# Altium footprint library Chips.PcbLib: 10 footprints
Each footprint in its own frame and in the unit in brackets; x right, y up, seen from the top. Pads: shape width x height; smd on the part's side, far side on the other; paste and mask are expansions set on the pad; w line width, h text height; cw(c..) or ccw(c..) is an arc to the next point about the centre after c.
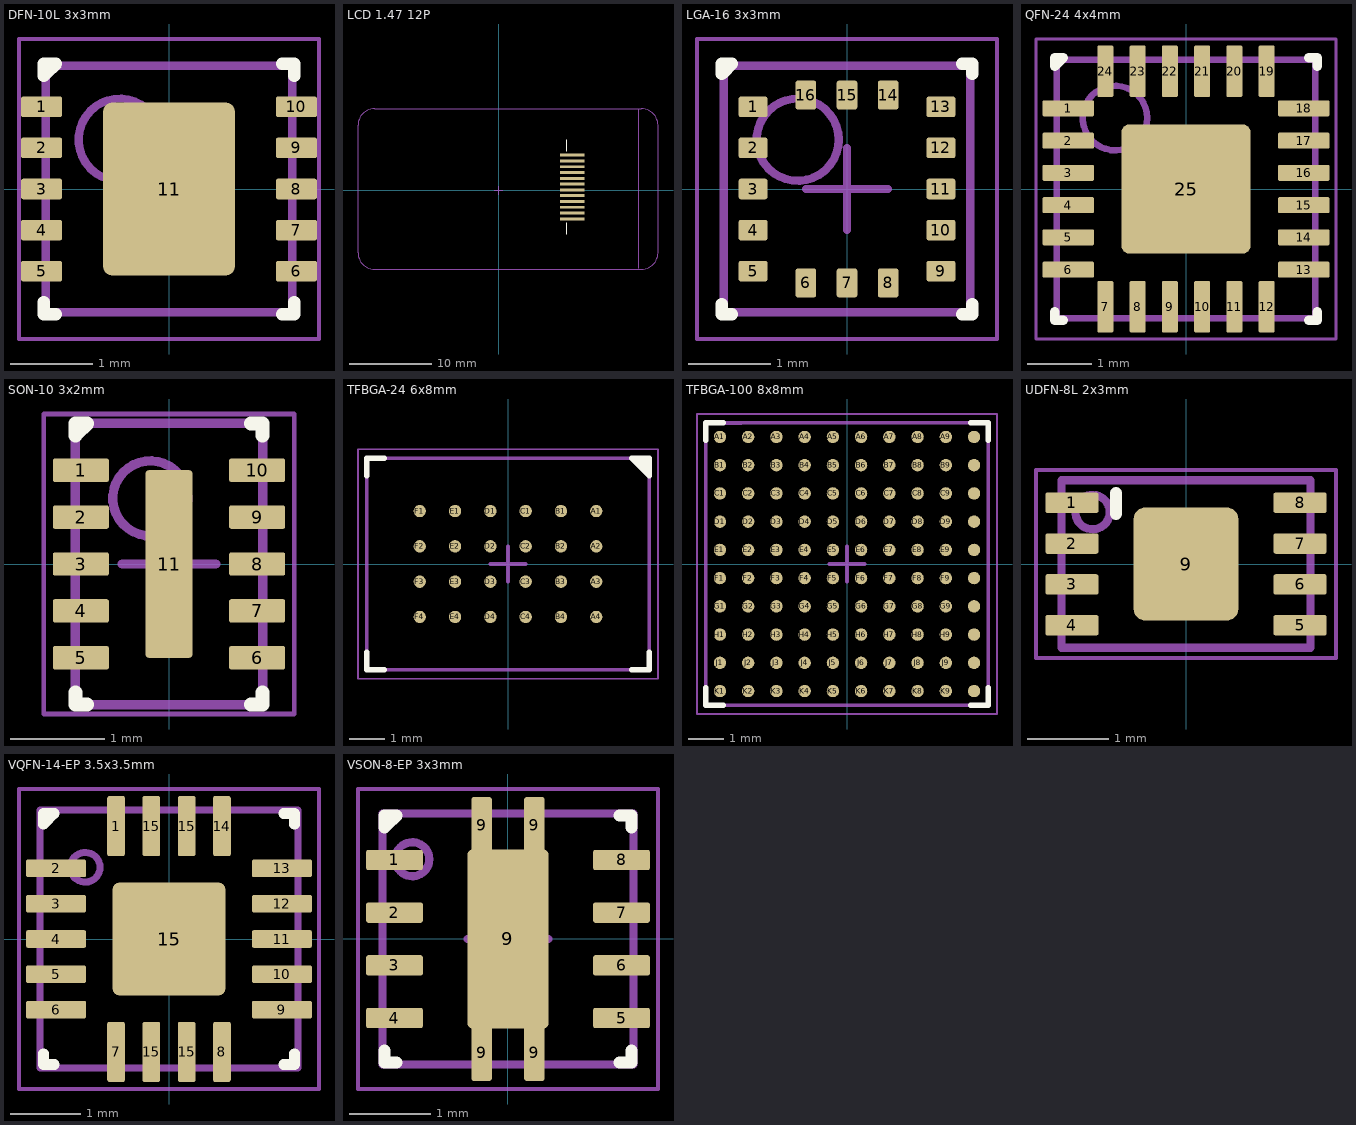
[diagram p0: the footprints below, top view; thin cyan lines are the x and y axes]

## DFN-10L 3x3mm [mm] "DFN-10L 3x3mm Pitch 0.50mm"
height 0.75
pads (11):
  rrect21% 0.5x0.25 smd mask+0.05: 1(-1.55,1) 2(-1.55,0.5) 3(-1.55,0) 4(-1.55,-0.5) 5(-1.55,-1) 6(1.55,-1) 7(1.55,-0.5) 8(1.55,0) 9(1.55,0.5) 10(1.55,1)
  rrect12% 1.6x2.1 smd mask+0.05: 11(0,0)
Top Overlay:
  region: -1.524,1.524 -1.374,1.524
  region: -1.312,1.483 -1.462,1.483 -1.462,1.333
  lines w0.15: -1.524,-1.374 -1.524,-1.524 -1.374,-1.524 ; -1.524,1.374 -1.524,1.524 -1.374,1.524 ; 1.374,-1.524 1.524,-1.524 1.524,-1.374 ; 1.374,1.524 1.524,1.524 1.524,1.374
Mechanical 13:
  circle w0.1: c-0.6,0.6 r0.5
  lines w0.1: -1.5,-1.5 -1.5,1.5 1.5,1.5 1.5,-1.5 -1.5,-1.5
Mechanical 15:
  lines w0.05: -1.825,-1.825 -1.825,1.825 1.825,1.825 1.825,-1.825 -1.825,-1.825
  lines w0.1: -0.5,0 0.5,0 ; 0,-0.5 0,0.5
3D body "DFN-10L 3x3mm.step": height 0.75, standoff 0, extent -1.55,-1.5 1.55,1.5

## LCD 1.47 12P [mm] "LBS147TC-IG01 1.47 inch 172RGB*320DOTS ST7789"
height 1
pads (12):
  rrect21% 3x0.35 smd mask+0.05: 1(8.922,4.271) 2(8.922,3.571) 3(8.922,2.871) 4(8.922,2.171) 5(8.922,1.471) 6(8.922,0.771) 7(8.922,0.071) 8(8.922,-0.629) 9(8.922,-1.329) 10(8.922,-2.029) 11(8.922,-2.729) 12(8.922,-3.429)
Top Overlay:
  lines w0.15: 8.271,-5.281 8.271,-3.884 ; 8.271,4.752 8.271,6.149
Mechanical 13:
  lines w0.15: 16.998,-9.436 16.998,0.18 16.998,9.868 ; -17.002,-7.52 ccw(c-15.002,-7.52) -15.002,-9.52 17.298,-9.52 ccw(c17.298,-7.52) 19.298,-7.52 19.298,7.88 ccw(c17.298,7.88) 17.298,9.88 -15.002,9.88 ccw(c-15.002,7.88) -17.002,7.88 -17.002,-7.52
Mechanical 15:
  lines w0.1: -0.498,0 0.502,0 ; 0.002,-0.5 0.002,0.5
3D body "LCD 1.47.step": height 1.46, standoff 0, extent -16.981,-9.515 19.299,9.875

## LGA-16 3x3mm [mm] "LGA-16 3x3mm Pitch 0.50mm"
height 1
pads (16):
  rrect21% 0.35x0.25 smd mask+0.05: 1(-1.143,1) 2(-1.143,0.5) 3(-1.143,0) 4(-1.143,-0.5) 5(-1.143,-1) 9(1.143,-1) 10(1.143,-0.5) 11(1.143,0) 12(1.143,0.5) 13(1.143,1)
  rrect21% 0.25x0.35 smd mask+0.05: 6(-0.5,-1.143) 7(0,-1.143) 8(0.5,-1.143) 14(0.5,1.143) 15(0,1.143) 16(-0.5,1.143)
Top Overlay:
  region: -1.465,1.356 -1.465,1.481 -1.34,1.481
  lines w0.15: -1.524,-1.399 -1.524,-1.524 -1.399,-1.524 ; -1.524,1.399 -1.524,1.524 -1.399,1.524 ; 1.399,-1.524 1.524,-1.524 1.524,-1.399 ; 1.399,1.524 1.524,1.524 1.524,1.399
Mechanical 13:
  circle w0.1: c-0.6,0.6 r0.5
  lines w0.1: -1.5,-1.5 1.5,-1.5 1.5,1.5 -1.5,1.5 -1.5,-1.5
Mechanical 15:
  lines w0.05: -1.825,-1.825 1.825,-1.825 1.825,1.825 -1.825,1.825 -1.825,-1.825
  lines w0.1: -0.5,0 0.5,0 ; 0,-0.5 0,0.5
3D body "LGA-16 3x3mm.step": height 1, standoff 0, extent -1.55,-1.55 1.55,1.55

## QFN-24 4x4mm [mm] "QFN-24 4x4mm Pitch 0.50mm"
height 0.75
pads (25):
  rrect21% 0.8x0.25 smd mask+0.05: 1(-1.825,1.25) 2(-1.825,0.75) 3(-1.825,0.25) 4(-1.825,-0.25) 5(-1.825,-0.75) 6(-1.825,-1.25) 13(1.825,-1.25) 14(1.825,-0.75) 15(1.825,-0.25) 16(1.825,0.25) 17(1.825,0.75) 18(1.825,1.25)
  rrect21% 0.25x0.8 smd mask+0.05: 7(-1.25,-1.825) 8(-0.75,-1.825) 9(-0.25,-1.825) 10(0.25,-1.825) 11(0.75,-1.825) 12(1.25,-1.825) 19(1.25,1.825) 20(0.75,1.825) 21(0.25,1.825) 22(-0.25,1.825) 23(-0.75,1.825) 24(-1.25,1.825)
  rrect12% 2x2 smd: 25(0,0)
Top Overlay:
  region: -1.973,1.864 -1.973,1.989 -1.848,1.989
  lines w0.15: -2.032,-1.907 -2.032,-2.032 -1.907,-2.032 ; -2.032,1.907 -2.032,2.032 -1.907,2.032 ; 1.907,-2.032 2.032,-2.032 2.032,-1.907 ; 1.907,2.032 2.032,2.032 2.032,1.907
Mechanical 13:
  circle w0.1: c-1.1,1.1 r0.5
  lines w0.1: -2,-2 -2,2 2,2 2,-2 -2,-2
Mechanical 15:
  lines w0.05: -2.325,-2.325 -2.325,2.325 2.325,2.325 2.325,-2.325 -2.325,-2.325
  lines w0.1: -0.5,0 0.5,0 ; 0,-0.5 0,0.5
3D body "QFN-24 4x4mm.step": height 0.75, standoff 0, extent -2.05,-2.05 2.05,2.05

## SON-10 3x2mm [mm] "SON-10 3x2mm Pitch 0.50mm"
pads (11):
  rrect21% 0.6x0.25 smd mask+0.05: 1(-0.94,1) 2(-0.94,0.5) 3(-0.94,0) 4(-0.94,-0.5) 5(-0.94,-1) 6(0.94,-1) 7(0.94,-0.5) 8(0.94,0) 9(0.94,0.5) 10(0.94,1)
  rrect12% 0.5x2 smd mask+0.05: 11(0,0)
Top Overlay:
  region: -0.939,1.33 -0.939,1.455 -0.814,1.455
  lines w0.15: -0.998,-1.373 -0.998,-1.498 -0.873,-1.498 ; -0.998,1.373 -0.998,1.498 -0.873,1.498 ; 0.873,-1.498 0.998,-1.498 0.998,-1.373 ; 0.873,1.498 0.998,1.498 0.998,1.373
Mechanical 13:
  circle w0.1: c-0.2,0.7 r0.4
  lines w0.1: -1,-1.5 1,-1.5 1,1.5 -1,1.5 -1,-1.5
Mechanical 15:
  lines w0.05: -1.335,-1.6 1.335,-1.6 1.335,1.6 -1.335,1.6 -1.335,-1.6
  lines w0.1: -0.5,0 0.5,0 ; 0,-0.5 0,0.5
3D body "SON-10 3x2mm.step": height 0.8, standoff 0, extent -1.05,-1.5 1.05,1.5

## TFBGA-24 6x8mm [mm] "TFBGA-24 6x8mm Pitch 1.00mm"
height 1.2
pads (24):
  round 0.35 smd: A1(2.5,1.5) A2(2.5,0.5) A3(2.5,-0.5) A4(2.5,-1.5) B1(1.5,1.5) B2(1.5,0.5) B3(1.5,-0.5) B4(1.5,-1.5) C1(0.5,1.5) C2(0.5,0.5) C3(0.5,-0.5) C4(0.5,-1.5) D1(-0.5,1.5) D2(-0.5,0.5) D3(-0.5,-0.5) D4(-0.5,-1.5) E1(-1.5,1.5) E2(-1.5,0.5) E3(-1.5,-0.5) E4(-1.5,-1.5) F1(-2.5,1.5) F2(-2.5,0.5) F3(-2.5,-0.5) F4(-2.5,-1.5)
Top Overlay:
  region: 3.947,2.451 3.447,2.951 3.947,2.951
  lines w0.15: -4,-2.5 -4,-3 -3.5,-3 ; -4,2.5 -4,3 -3.5,3 ; 3.5,-3 4,-3 4,-2.5 ; 3.5,3 4,3 4,2.5
Mechanical 13:
  lines w0.1: -4,-3 4,-3 4,3 -4,3 -4,-3
Mechanical 15:
  lines w0.05: -4.25,-3.25 4.25,-3.25 4.25,3.25 -4.25,3.25 -4.25,-3.25
  lines w0.1: -0.5,0 0.5,0 ; 0,-0.5 0,0.5
3D body "MX25L12855FXCI-10G.step": height 1.2, standoff 0, extent -4,-3 4,3

## TFBGA-100 8x8mm [mm] "TFBGA-100 8x8mm Pitch 0.80mm"
height 1.2
pads (100):
  round 0.35 smd: A1(-3.6,3.6) A2(-2.8,3.6) A3(-2,3.6) A4(-1.2,3.6) A5(-0.4,3.6) A6(0.4,3.6) A7(1.2,3.6) A8(2,3.6) A9(2.8,3.6) A10(3.6,3.6) B1(-3.6,2.8) B2(-2.8,2.8) B3(-2,2.8) B4(-1.2,2.8) B5(-0.4,2.8) B6(0.4,2.8) B7(1.2,2.8) B8(2,2.8) B9(2.8,2.8) B10(3.6,2.8) C1(-3.6,2) C2(-2.8,2) C3(-2,2) C4(-1.2,2) C5(-0.4,2) C6(0.4,2) C7(1.2,2) C8(2,2) C9(2.8,2) C10(3.6,2) D1(-3.6,1.2) D2(-2.8,1.2) D3(-2,1.2) D4(-1.2,1.2) D5(-0.4,1.2) D6(0.4,1.2) D7(1.2,1.2) D8(2,1.2) D9(2.8,1.2) D10(3.6,1.2) E1(-3.6,0.4) E2(-2.8,0.4) E3(-2,0.4) E4(-1.2,0.4) E5(-0.4,0.4) E6(0.4,0.4) E7(1.2,0.4) E8(2,0.4) E9(2.8,0.4) E10(3.6,0.4) F1(-3.6,-0.4) F2(-2.8,-0.4) F3(-2,-0.4) F4(-1.2,-0.4) F5(-0.4,-0.4) F6(0.4,-0.4) F7(1.2,-0.4) F8(2,-0.4) F9(2.8,-0.4) F10(3.6,-0.4) G1(-3.6,-1.2) G2(-2.8,-1.2) G3(-2,-1.2) G4(-1.2,-1.2) G5(-0.4,-1.2) G6(0.4,-1.2) G7(1.2,-1.2) G8(2,-1.2) G9(2.8,-1.2) G10(3.6,-1.2) H1(-3.6,-2) H2(-2.8,-2) H3(-2,-2) H4(-1.2,-2) H5(-0.4,-2) H6(0.4,-2) H7(1.2,-2) H8(2,-2) H9(2.8,-2) H10(3.6,-2) J1(-3.6,-2.8) J2(-2.8,-2.8) J3(-2,-2.8) J4(-1.2,-2.8) J5(-0.4,-2.8) J6(0.4,-2.8) J7(1.2,-2.8) J8(2,-2.8) J9(2.8,-2.8) J10(3.6,-2.8) K1(-3.6,-3.6) K2(-2.8,-3.6) K3(-2,-3.6) K4(-1.2,-3.6) K5(-0.4,-3.6) K6(0.4,-3.6) K7(1.2,-3.6) K8(2,-3.6) K9(2.8,-3.6) K10(3.6,-3.6)
Top Overlay:
  lines w0.15: -4,-3.5 -4,-4 -3.5,-4 ; -4,3.5 -4,4 -3.5,4 ; 3.5,-4 4,-4 4,-3.5 ; 3.5,4 4,4 4,3.5
Mechanical 13:
  lines w0.1: -4,-4 4,-4 4,4 -4,4 -4,-4
Mechanical 15:
  lines w0.05: -4.25,-4.25 4.25,-4.25 4.25,4.25 -4.25,4.25 -4.25,-4.25
  lines w0.1: -3.997,2.992 -3.997,3.992 -2.997,3.992 ; -0.5,0 0.5,0 ; 0,-0.5 0,0.5
3D body "STM32H723VG.step": height 1.2, standoff 0, extent -4,-4 4,4

## UDFN-8L 2x3mm [mm] "UDFN-8 SON-8 2x3mm Pitch 0.50mm"
height 0.6
pads (9):
  rrect21% 0.65x0.25 smd mask+0.05: 1(-1.395,0.75) 2(-1.395,0.25) 3(-1.395,-0.25) 4(-1.395,-0.75) 5(1.395,-0.75) 6(1.395,-0.25) 7(1.395,0.25) 8(1.395,0.75)
  rrect21% 1.28x1.38 smd mask+0.05: 9(0,0)
Top Overlay:
  lines w0.15: -0.855,0.614 -0.855,0.868
Mechanical 13:
  circle w0.1: c-1.143,0.635 r0.21
  lines w0.1: -1.525,-1.025 1.525,-1.025 1.525,1.025 -1.525,1.025 -1.525,-1.025
Mechanical 15:
  lines w0.05: -1.835,-1.15 1.835,-1.15 1.835,1.15 -1.835,1.15 -1.835,-1.15
  lines w0.1: -0.5,0 0.5,0 ; 0,-0.5 0,0.5
3D body "UDFN-8L 2x3mm.step": height 0.6, standoff 0, extent -1.575,-1.025 1.575,1.025

## VQFN-14-EP 3.5x3.5mm [mm] "VQFN-14-EP 3.5x3.5mm Pitch 0.50mm"
height 1
pads (19):
  rrect21% 0.25x0.85 smd mask+0.05: 1(-0.75,1.6) 7(-0.75,-1.6) 8(0.75,-1.6) 14(0.75,1.6) 15(-0.25,-1.6) 15(-0.25,1.6) 15(0.25,-1.6) 15(0.25,1.6)
  rrect21% 0.85x0.25 smd mask+0.05: 2(-1.6,1) 3(-1.6,0.5) 4(-1.6,0) 5(-1.6,-0.5) 6(-1.6,-1) 9(1.6,-1) 10(1.6,-0.5) 11(1.6,0) 12(1.6,0.5) 13(1.6,1)
  rrect12% 1.6x1.6 smd mask+0.05: 15(0,0)
Top Overlay:
  region: -1.566,1.737 -1.716,1.737 -1.716,1.587
  lines w0.15: -1.778,-1.628 -1.778,-1.778 -1.628,-1.778 ; -1.778,1.628 -1.778,1.778 -1.628,1.778 ; 1.628,-1.778 1.778,-1.778 1.778,-1.628 ; 1.628,1.778 1.778,1.778 1.778,1.628
Mechanical 13:
  circle w0.1: c-1.187,1.016 r0.21
  lines w0.1: -1.825,-1.825 -1.825,1.825 1.825,1.825 1.825,-1.825 -1.825,-1.825
Mechanical 15:
  lines w0.05: -2.125,-2.125 -2.125,2.125 2.125,2.125 2.125,-2.125 -2.125,-2.125
  lines w0.1: -0.5,0 0.5,0 ; 0,-0.5 0,0.5
3D body: height 1, standoff 0.05, extent -1.825,-1.825 1.825,1.825

## VSON-8-EP 3x3mm [mm] "VSON-8-EP QFN-12 3x3mm Pitch 0.65mm"
height 1
pads (13):
  rrect21% 0.7x0.25 smd mask+0.05: 1(-1.4,0.975) 2(-1.4,0.325) 3(-1.4,-0.325) 4(-1.4,-0.975) 5(1.4,-0.975) 6(1.4,-0.325) 7(1.4,0.325) 8(1.4,0.975)
  rrect21% 0.25x0.7 smd mask+0.05: 9(-0.325,-1.4) 9(-0.325,1.4) 9(0.325,-1.4) 9(0.325,1.4)
  rrect12% 1x2.21 smd mask+0.05: 9(0,0)
Top Overlay:
  region: -1.312,1.483 -1.462,1.483 -1.462,1.333
  lines w0.15: -1.524,-1.374 -1.524,-1.524 -1.374,-1.524 ; -1.524,1.374 -1.524,1.524 -1.374,1.524 ; 1.374,-1.524 1.524,-1.524 1.524,-1.374 ; 1.374,1.524 1.524,1.524 1.524,1.374
Mechanical 13:
  circle w0.1: c-1.181,0.983 r0.21
  lines w0.1: -1.55,-1.55 -1.55,1.55 1.55,1.55 1.55,-1.55 -1.55,-1.55
Mechanical 15:
  lines w0.05: -1.85,-1.85 -1.85,1.85 1.85,1.85 1.85,-1.85 -1.85,-1.85
  lines w0.1: -0.5,0 0.5,0 ; 0,-0.5 0,0.5
3D body: height 1, standoff 0.05, extent -1.55,-1.55 1.55,1.55